# Altium schematic symbol library RES-SM-0603-220R.Schlib: 1 symbol
Pins are listed as number, name and electrical type; pins without a type are passive.

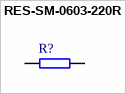
[diagram p0: symbol RES-SM-0603-220R]

## RES-SM-0603-220R
designator R?, comment Resistor  (value not drawn)
RES SM 0603 220R
pins: 1, 2